# EAGLE library part TS8_7.5 (library wheat)
TERMINAL STRIP, 8 POSITION 7.5MM
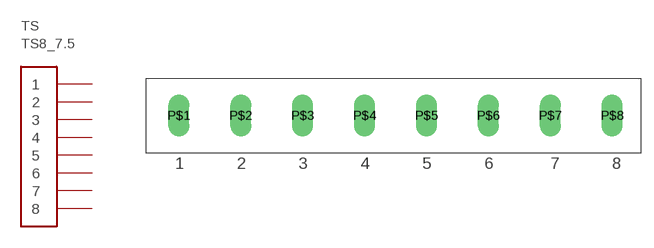
[diagram p18: symbol with the pads of TS8_7.5; footprint TS8_7.5]

Designator prefix TS

## TS8_7.5  [TS8_7.5]
P$1  1  pas
P$2  2  pas
P$3  3  pas
P$4  4  pas
P$5  5  pas
P$6  6  pas
P$7  7  pas
P$8  8  pas

## Footprint TS8_7.5 (pad centres in mm)
TEMINAL STRIP, 8 POS, 7.5MM
drill 1.27 pad 2.54 long: P$1 0,0; P$2 7.5,0; P$3 15,0; P$4 22.5,0; P$5 30,0; P$6 37.5,0; P$7 45,0; P$8 52.5,0